# Altium schematic symbol library 1.schlib: 5 symbols
Pins are listed as number, name and electrical type; pins without a type are passive.

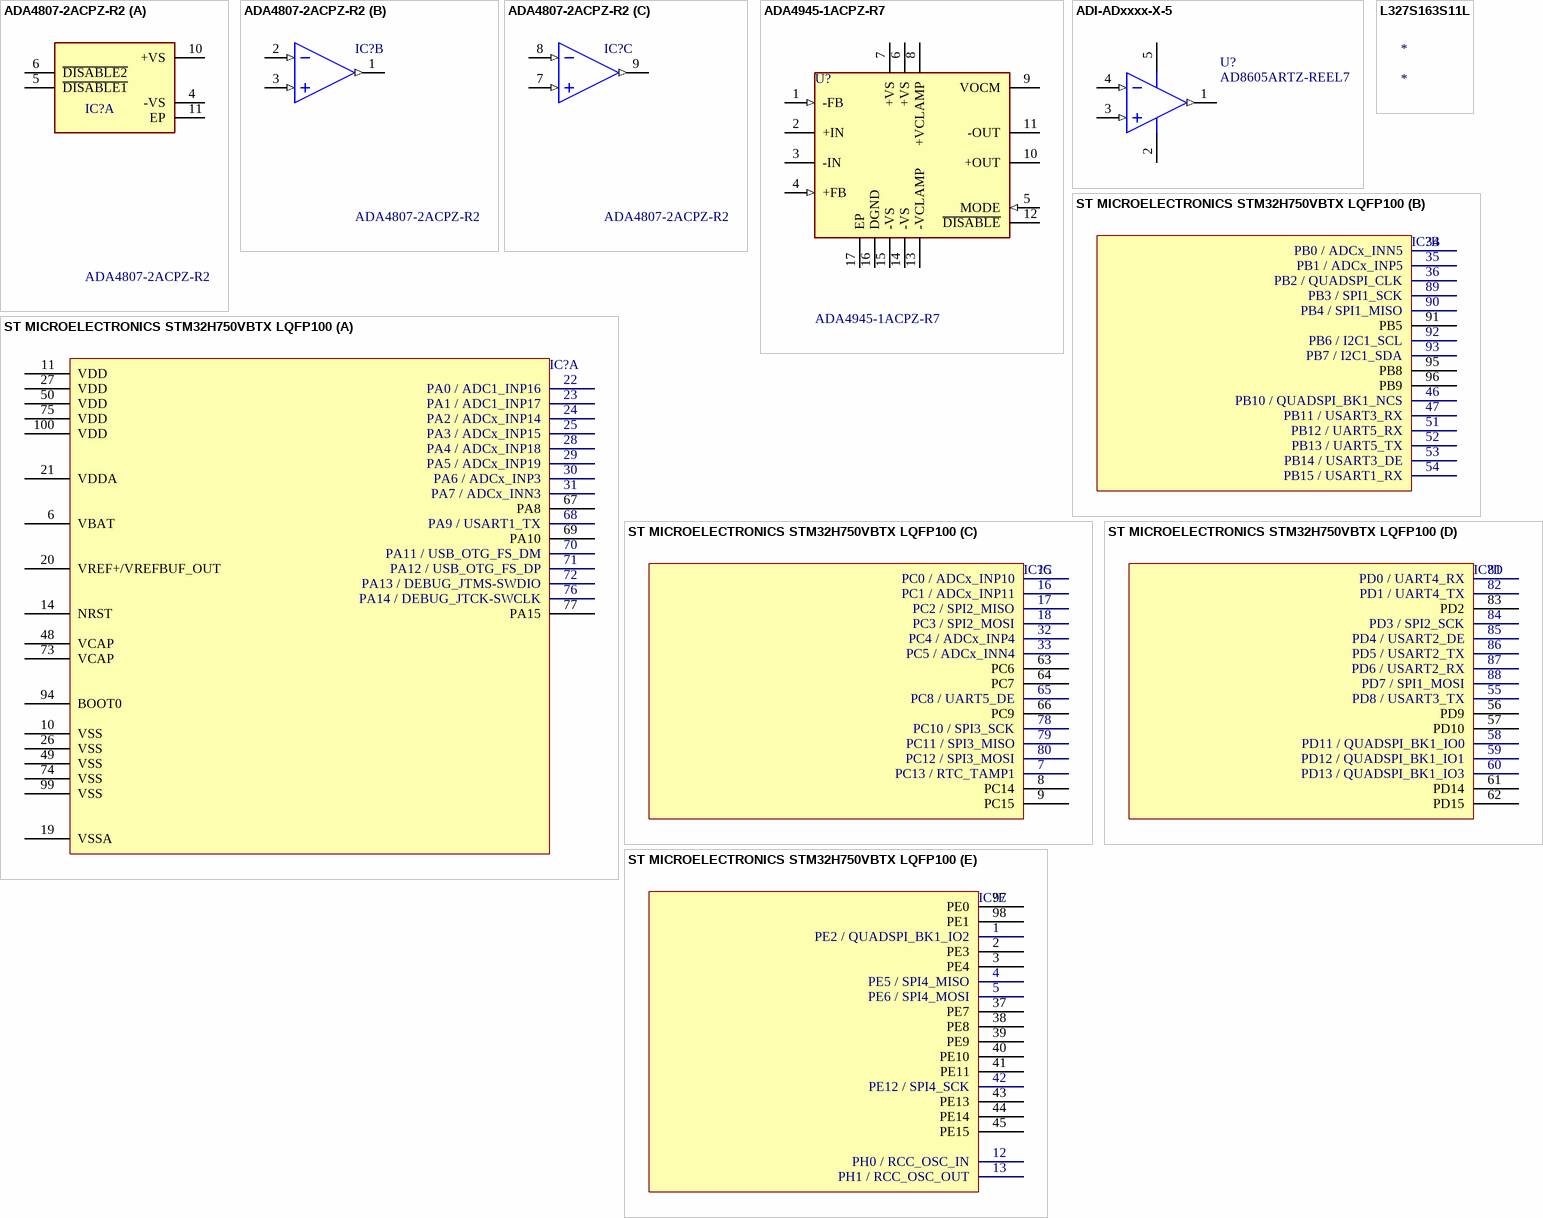
[diagram p0: symbols ADA4807-2ACPZ-R2 to ST MICROELECTRONICS STM32H750VBTX LQFP100]

## ADA4807-2ACPZ-R2
designator IC?
Integrated Circuit; Manufacturer_Name: Analog Devices; Datasheet Link: https://componentsearchengine.com/Datasheets/2/ADA4807-2ACPZ-R2.pdf; Height: 0.8mm; Manufacturer_Part_Number: ADA4807-2ACPZ-R2; Mouser Part Number: 584-ADA4807-2ACPZ-R2; Mouser Price/Stock: https://www.mouser.co.uk/ProductDetail/Analog-Devices/ADA4807-2ACPZ-R2?qs=xbTpb2TSnD%2FWQQylmCBTow%3D%3D; Arrow Part Number: ADA4807-2ACPZ-R2; Arrow Price/Stock: null?region=nac
footprint SON50P300X300X80-11N-D
part A pins: 4 -VS, 5 ~{DISABLE1}, 6 ~{DISABLE2}, 10 +VS, 11 EP
part B pins: 1 VOUT (out), 2 -IN1 (in), 3 +IN1 (in)
part C pins: 7 +IN2 (in), 8 -IN2 (in), 9 VOUT2 (out)

## ADA4945-1ACPZ-R7
designator U?
IC ADC DRIVER 16LFCSP; Number of Pins: 16
footprint FP-CP-16-22-IPC_C
footprint FP-CP-16-22-IPC_B
footprint FP-CP-16-22-IPC_A
pins: 1 -FB (in), 2 +IN (power), 3 -IN (power), 4 +FB (in), 5 MODE (in), 6 +VS (power), 7 +VS (power), 8 +VCLAMP (power), 9 VOCM (power), 10 +OUT, 11 -OUT, 12 ~{DISABLE}, 13 -VCLAMP (power), 14 -VS (power), 15 -VS (power), 16 DGND (power), 17 EP

## ADI-ADxxxx-X-5
designator U?, comment AD8605ARTZ-REEL7
Single Channel Wide Bandwidth Operational Amplifier, 10 MHz BW, 5 V/us SR, Industrial, 5-pin SOT23 (RJ-5), Reel; Manufacturer: Analog Devices; Generic Part Number: AD8605; Input Offset Voltage: 20uV; V Span Min: 2.7V; Input Bias Current: 200fA; Slew Rate: 5V/us; V Span Max: 6V; Small Signal Bandwidth: 10MHz; Amplifiers Per Package: 1; Iq/Amp: 1.2mA; ComponentLink2Description: Datasheet; PackageVersion: 121608-A; Mounting Technology: Surface Mount; ComponentLink3URL: http://www.analog.com/static/imported-files/packages/PKG_PDF/SOT-23(RJ)/RJ_5.pdf; Code_JEDEC: MO-178-AA; ComponentLink1Description: Manufacturer URL; ComponentLink4Description: Reference Circuit; RevisionNote: Reference Circuit URL fixed; PartNumber: AD8605ARTZ-REEL7; DatasheetVersion: Rev. L; PackageDescription: 5-Pin Small Outline Transistor Package, Body 2.9 x 1.6 mm, Pitch 0.95 mm; ComponentLink4URL: http://www.analog.com/en/all-operational-amplifiers-op-amps/operational-amplifiers-op-amps/ad8605/products/product.html#product-recommendations; ComponentLink3Description: Package Specification; ComponentLink1URL: http://www.analog.com/en/index.html; PackageReference: RJ-5; ComponentLink2URL: http://www.analog.com/static/imported-files/data_sheets/AD8605_8606_8608.pdf
footprint ADI-RJ-5_M (SOT-23, 5-Leads, Body 2.9x1.6mm, Pitch 0.95mm, IPC Low Density)
footprint ADI-RJ-5_L (SOT-23, 5-Leads, Body 2.9x1.6mm, Pitch 0.95mm, IPC High Density)
footprint ADI-RJ-5_N (SOT-23, 5-Leads, Body 2.9x1.6mm, Pitch 0.95mm, IPC Medium Density)
pins: 1 OUT (out), 2 -V (power), 3 +IN (in), 4 -IN (in), 5 +V (power)

## L327S163S11L
designator *

## ST MICROELECTRONICS STM32H750VBTX LQFP100
designator IC?, comment STM32H750VBT6  (value not drawn)
part A pins: 6 VBAT, 10 VSS, 11 VDD, 14 NRST, 19 VSSA, 20 VREF+/VREFBUF_OUT, 21 VDDA, 22 PA0 / ADC1_INP16 "ADC1", 23 PA1 / ADC1_INP17 "ADC1", 24 PA2 / ADCx_INP14 "ADCx", 25 PA3 / ADCx_INP15 "ADCx", 26 VSS, 27 VDD, 28 PA4 / ADCx_INP18 "ADCx", 29 PA5 / ADCx_INP19 "ADCx", 30 PA6 / ADCx_INP3 "ADCx", 31 PA7 / ADCx_INN3 "ADCx", 48 VCAP, 49 VSS, 50 VDD, 67 PA8, 68 PA9 / USART1_TX "USART1", 69 PA10, 70 PA11 / USB_OTG_FS_DM "USB", 71 PA12 / USB_OTG_FS_DP "USB", 72 PA13 / DEBUG_JTMS-SWDIO "DEBUG", 73 VCAP, 74 VSS, 75 VDD, 76 PA14 / DEBUG_JTCK-SWCLK "DEBUG", 77 PA15, 94 BOOT0, 99 VSS, 100 VDD
part B pins: 34 PB0 / ADCx_INN5 "ADCx", 35 PB1 / ADCx_INP5 "ADCx", 36 PB2 / QUADSPI_CLK "QUADSPI", 46 PB10 / QUADSPI_BK1_NCS "QUADSPI", 47 PB11 / USART3_RX "USART3", 51 PB12 / UART5_RX "UART5", 52 PB13 / UART5_TX "UART5", 53 PB14 / USART3_DE "USART3", 54 PB15 / USART1_RX "USART1", 89 PB3 / SPI1_SCK "SPI1", 90 PB4 / SPI1_MISO "SPI1", 91 PB5, 92 PB6 / I2C1_SCL "I2C1", 93 PB7 / I2C1_SDA "I2C1", 95 PB8, 96 PB9
part C pins: 7 PC13 / RTC_TAMP1 "RTC", 8 PC14, 9 PC15, 15 PC0 / ADCx_INP10 "ADCx", 16 PC1 / ADCx_INP11 "ADCx", 17 PC2 / SPI2_MISO "SPI2", 18 PC3 / SPI2_MOSI "SPI2", 32 PC4 / ADCx_INP4 "ADCx", 33 PC5 / ADCx_INN4 "ADCx", 63 PC6, 64 PC7, 65 PC8 / UART5_DE "UART5", 66 PC9, 78 PC10 / SPI3_SCK "SPI3", 79 PC11 / SPI3_MISO "SPI3", 80 PC12 / SPI3_MOSI "SPI3"
part D pins: 55 PD8 / USART3_TX "USART3", 56 PD9, 57 PD10, 58 PD11 / QUADSPI_BK1_IO0 "QUADSPI", 59 PD12 / QUADSPI_BK1_IO1 "QUADSPI", 60 PD13 / QUADSPI_BK1_IO3 "QUADSPI", 61 PD14, 62 PD15, 81 PD0 / UART4_RX "UART4", 82 PD1 / UART4_TX "UART4", 83 PD2, 84 PD3 / SPI2_SCK "SPI2", 85 PD4 / USART2_DE "USART2", 86 PD5 / USART2_TX "USART2", 87 PD6 / USART2_RX "USART2", 88 PD7 / SPI1_MOSI "SPI1"
part E pins: 1 PE2 / QUADSPI_BK1_IO2 "QUADSPI", 2 PE3, 3 PE4, 4 PE5 / SPI4_MISO "SPI4", 5 PE6 / SPI4_MOSI "SPI4", 12 PH0 / RCC_OSC_IN "RCC", 13 PH1 / RCC_OSC_OUT "RCC", 37 PE7, 38 PE8, 39 PE9, 40 PE10, 41 PE11, 42 PE12 / SPI4_SCK "SPI4", 43 PE13, 44 PE14, 45 PE15, 97 PE0, 98 PE1